# Altium footprint library R_C.PcbLib: 46 footprints (part 3 of 3)
Each footprint in its own frame and in the unit in brackets; x right, y up, seen from the top. Pads: shape width x height; smd on the part's side, far side on the other; paste and mask are expansions set on the pad; w line width, h text height; cw(c..) or ccw(c..) is an arc to the next point about the centre after c.
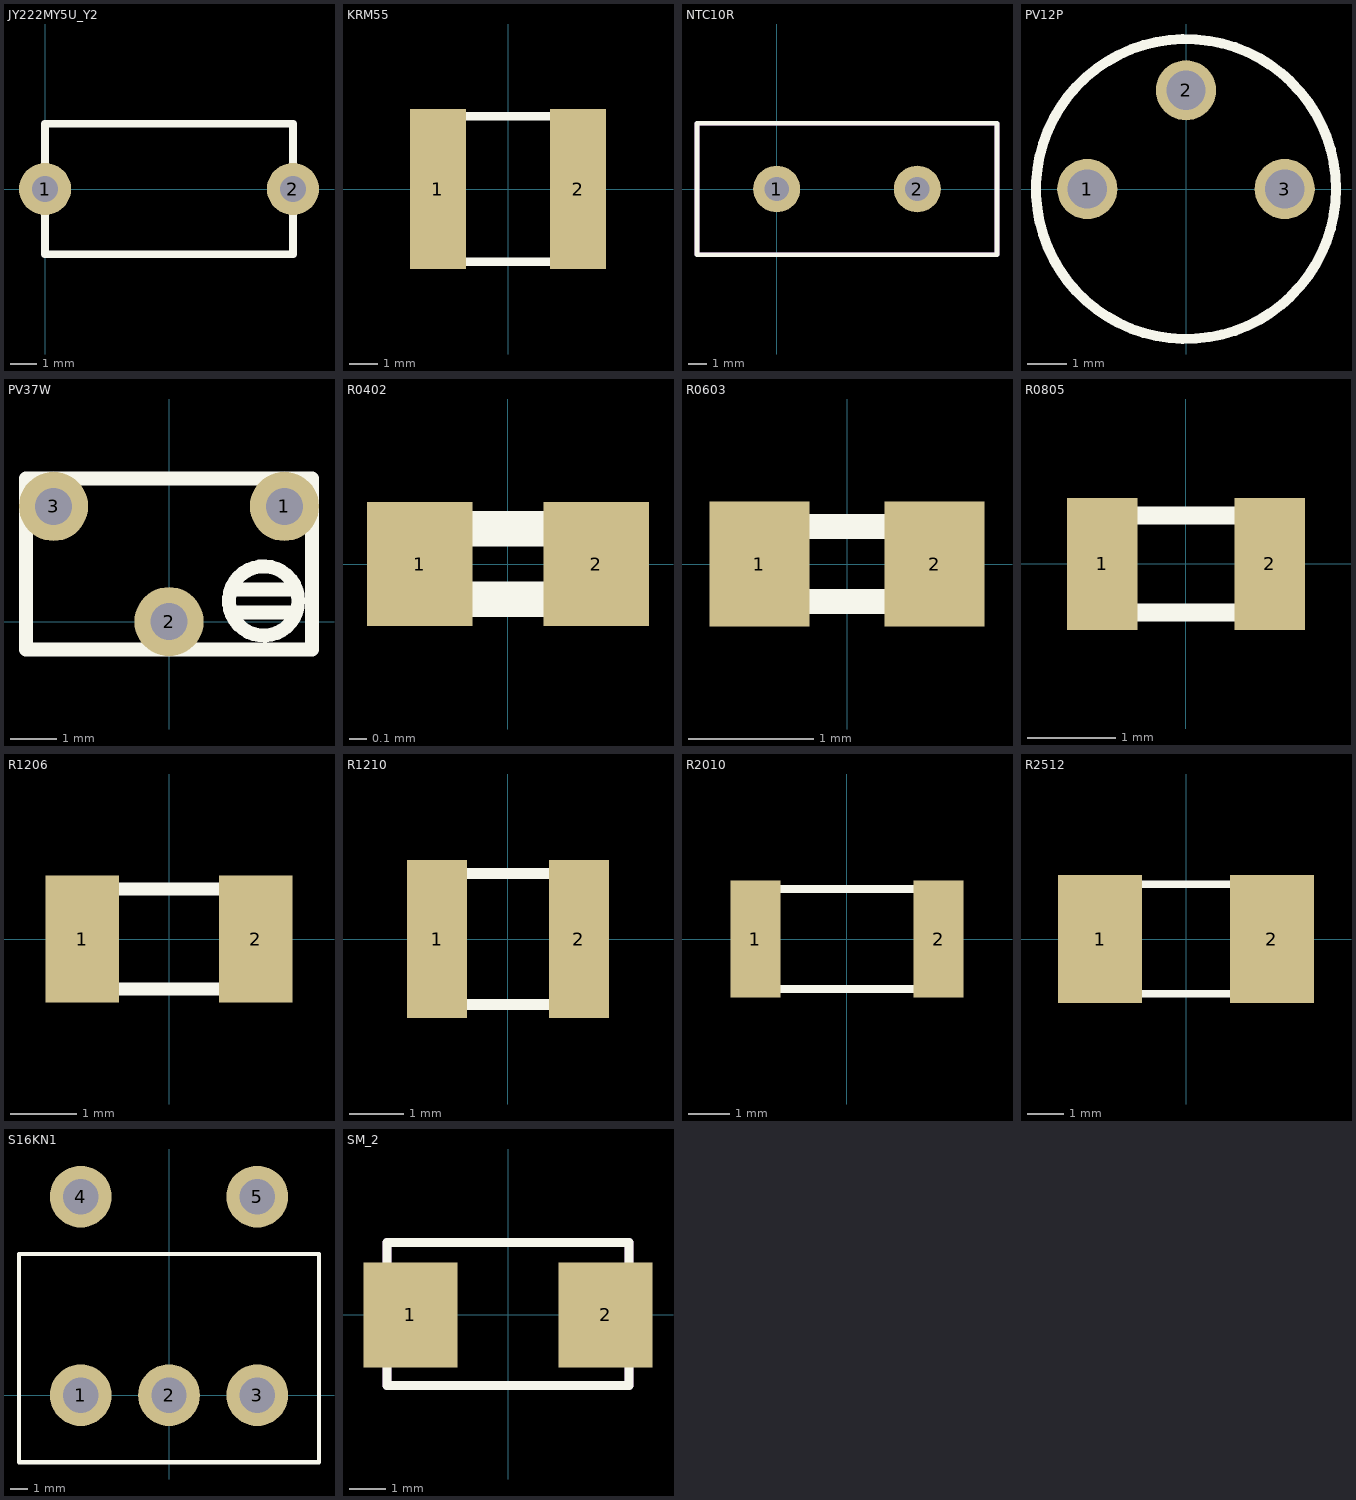
[diagram p2: the footprints below, top view; thin cyan lines are the x and y axes]

## JY222MY5U_Y2 [mm]
height 10.5
pads (2):
  round 2 hole 1: 1(0,0) 2(9.5,0)
Top Overlay:
  lines w0.3: 0,-2.5 0,2.5 9.5,2.5 9.5,-2.5 0,-2.5

## KRM55 [mm]
height 5
pads (2):
  rect 2x5.7 smd: 1(-2.5,0) 2(2.5,0)
Top Overlay:
  lines w0.3: -3.1,-2.6 -3.1,2.6 3.1,2.6 3.1,-2.6 -3.1,-2.6
3D body: height 5, standoff 0, extent -3.25,-2.75 3.25,2.75

## NTC10R [mm]
height 23
pads (2):
  round 2.5 hole 1.3: 1(0,0) 2(7.5,0)
Top Overlay:
  lines w0.25: -4.25,-3.5 -4.25,3.5 11.75,3.5 11.75,-3.5 -4.25,-3.5
Mechanical 5:
  lines w0.25: -4.25,-3.5 -4.25,3.5 11.75,3.5 11.75,-3.5 -4.25,-3.5
3D body: height 7, standoff -3, extent 7.004,-0.499 8,0.499
3D body: height 7, standoff -3, extent -0.496,-0.499 0.5,0.499
3D body: height 20.94, standoff 5, extent -4.234,-3.5 11.734,3.5

## PV12P [mm]
pads (3):
  round 1.524 hole 1: 1(-2.5,0) 2(0,2.5) 3(2.5,0)
Top Overlay:
  circle w0.254: c0,0 r3.8

## PV37W [mm]
height 7.7
pads (3):
  round 1.5 hole 0.8: 1(2.5,2.5) 2(0,0) 3(-2.5,2.5)
Top Overlay:
  circle w0.3: c2.05,0.45 r0.75
  lines w0.3: 1.35,0.2 2.75,0.2 ; 1.35,0.7 2.75,0.7 ; -3.1,-0.6 3.1,-0.6 3.1,3.1 -3.1,3.1 -3.1,-0.6
3D body: height 7.9, standoff -3.5, extent -3.2,-0.75 3.2,3.25

## R0402 [mm]
height 0.4
pads (2):
  rect 0.6x0.7 smd: 1(-0.5,0) 2(0.5,0)
Top Overlay:
  lines w0.2: -0.45,-0.2 0.45,-0.2 0.45,0.2 -0.45,0.2 -0.45,-0.2
3D body: height 0.4, standoff 0, extent -0.56,-0.31 -0.2,0.31
3D body: height 0.4, standoff 0, extent 0.2,-0.31 0.56,0.31
3D body: height 0.38, standoff 0.01, extent -0.55,-0.3 0.55,0.3

## R0603 [mm]
height 0.5
pads (2):
  rect 0.8x1 smd: 1(-0.7,0) 2(0.7,0)
Top Overlay:
  lines w0.2: -0.75,-0.3 0.75,-0.3 0.75,0.3 -0.75,0.3 -0.75,-0.3
3D body: height 0.5, standoff 0, extent 0.3,-0.41 0.86,0.41
3D body: height 0.5, standoff 0, extent -0.86,-0.41 -0.3,0.41
3D body: height 0.48, standoff 0.01, extent -0.85,-0.4 0.85,0.4

## R0805 [mm]
height 0.6
pads (2):
  rect 0.8x1.5 smd: 1(-0.95,0) 2(0.95,0)
Top Overlay:
  lines w0.2: -1,-0.55 1,-0.55 1,0.55 -1,0.55 -1,-0.55
3D body: height 0.6, standoff 0, extent 0.5,-0.66 1.11,0.66
3D body: height 0.6, standoff 0, extent -1.11,-0.66 -0.5,0.66
3D body: height 0.58, standoff 0.01, extent -1.1,-0.65 1.1,0.65

## R1206 [mm]
height 0.6
pads (2):
  rect 1.1x1.9 smd: 1(-1.3,0) 2(1.3,0)
Top Overlay:
  lines w0.2: -1.5,-0.75 -1.5,0.75 1.5,0.75 1.5,-0.75 -1.5,-0.75
3D body: height 0.6, standoff 0, extent 0.75,-0.86 1.61,0.86
3D body: height 0.6, standoff 0, extent -1.61,-0.86 -0.75,0.86
3D body: height 0.58, standoff 0.01, extent -1.6,-0.85 1.6,0.85

## R1210 [mm]
height 0.6
pads (2):
  rect 1.1x2.9 smd: 1(-1.3,0) 2(1.3,0)
Top Overlay:
  lines w0.2: -1.5,-1.2 -1.5,1.2 1.5,1.2 1.5,-1.2 -1.5,-1.2
3D body: height 0.6, standoff 0, extent -1.61,-1.31 -0.75,1.31
3D body: height 0.6, standoff 0, extent 0.75,-1.31 1.61,1.31
3D body: height 0.58, standoff 0.01, extent -1.6,-1.3 1.6,1.3

## R2010 [mm]
height 0.6
pads (2):
  rect 1.2x2.8 smd: 1(-2.2,0) 2(2.2,0)
Top Overlay:
  lines w0.2: -2.45,-1.2 2.45,-1.2 2.45,1.2 -2.45,1.2 -2.45,-1.2
3D body: height 0.58, standoff 0.01, extent -2.56,-1.31 2.56,1.31
3D body: height 0.6, standoff 0, extent 1.6,-1.31 2.56,1.31
3D body: height 0.6, standoff 0, extent -2.56,-1.31 -1.6,1.31

## R2512 [mm]
height 0.6
pads (2):
  rect 2.3x3.5 smd: 1(-2.35,0) 2(2.35,0)
Top Overlay:
  lines w0.2: -3.15,-1.5 -3.15,1.5 3.15,1.5 3.15,-1.5 -3.15,-1.5
3D body: height 0.58, standoff 0.01, extent -3.25,-1.6 3.25,1.6
3D body: height 0.6, standoff 0, extent -3.26,-1.61 -1.2,1.61
3D body: height 0.6, standoff 0, extent 1.2,-1.61 3.26,1.61

## S16KN1 [mm]
pads (5):
  round 3.5 hole 2: 1(-5,0) 2(0,0) 3(5,0) 4(-5,11.25) 5(5,11.25)
Top Overlay:
  lines w0.254: -8.5,-3.8 8.5,-3.8 8.5,8 -8.5,8 -8.5,-3.8
3D body: height 20.62, standoff -4, extent -7.874,-20.732 7.874,4.826

## SM_2 [mm]
height 3.8
pads (2):
  rect 2.6x2.9 smd: 1(-2.7,0) 2(2.7,0)
Top Overlay:
  lines w0.25: -3.35,-1.95 3.35,-1.95 3.35,2 -3.35,2 -3.35,-1.95
Mechanical 5:
  lines w0.25: -3.35,-1.95 -3.35,2 3.35,2 3.35,-1.95 -3.35,-1.95